# Altium schematic symbol library 最终原理图.SchLib: 3 symbols
Pins are listed as number, name and electrical type; pins without a type are passive.

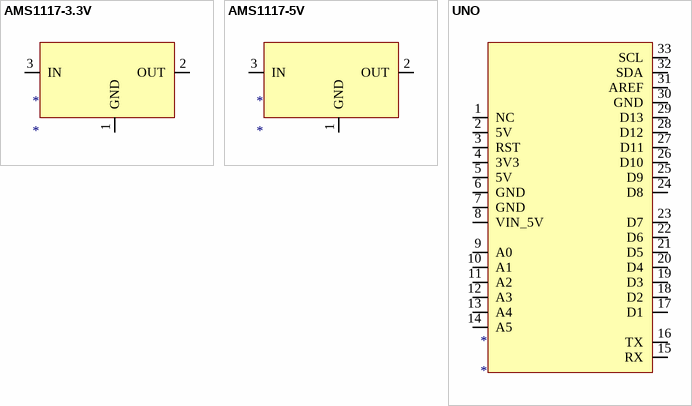
[diagram p0: symbols AMS1117-3.3V to UNO]

## AMS1117-3.3V
designator *
pins: 1 GND "数字端", 2 OUT "数字端", 3 IN "数字端"

## AMS1117-5V
designator *
pins: 1 GND "数字端", 2 OUT "数字端", 3 IN "数字端"

## UNO
designator *
pins: 1 NC "POWER", 2 5V "POWER", 3 RST "POWER", 4 3V3 "POWER", 5 5V "POWER", 6 GND "POWER", 7 GND "POWER", 8 VIN_5V "POWER", 9 A0 "模拟输入", 10 A1 "模拟输入", 11 A2 "模拟输入", 12 A3 "模拟输入", 13 A4 "模拟输入", 14 A5 "模拟输入", 15 RX "模拟输入", 16 TX "模拟输入", 17 D1 "数字端", 18 D2 "数字端", 19 D3 "数字端", 20 D4 "数字端", 21 D5 "数字端", 22 D6 "数字端", 23 D7 "数字端", 24 D8 "数字端", 25 D9 "数字端", 26 D10 "数字端", 27 D11 "数字端", 28 D12 "数字端", 29 D13 "数字端", 30 GND "数字端", 31 AREF "数字端", 32 SDA "数字端", 33 SCL "数字端"